# EAGLE library part XCF0*S (library kamiki)
Platform flash In-System Programmable Configuration PROM
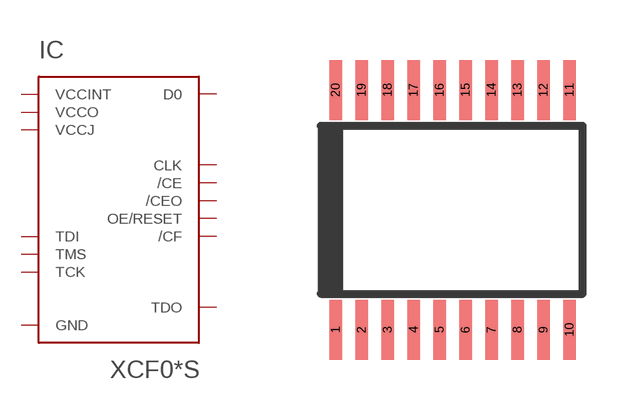
[diagram p39: symbol with the pads of VO20; footprint VO20]

Designator prefix IC

## XCF01S-VO20, XCF02S-VO20, XCF04S-VO20  [VO20]
1  D0  out
3  CLK  in
4  TDI
5  TMS
6  TCK
7  /CF
8  OE/RESET
10  /CE  in
11  GND  pwr
13  /CEO  in
17  TDO  out
18  VCCINT  in
19  VCCO  in
20  VCCJ  in

## Footprint VO20 (pad centres in mm)
Shrink Small Outline Package package type VO20 for XiLINX.
smd 0.32 x 1.5: 1 -2.925,-3; 2 -2.275,-3; 3 -1.625,-3; 4 -0.975,-3; 5 -0.325,-3; 6 0.325,-3; 7 0.975,-3; 8 1.625,-3; 9 2.275,-3; 10 2.925,-3; 11 2.925,3; 12 2.275,3; 13 1.625,3; 14 0.975,3; 15 0.325,3; 16 -0.325,3; 17 -0.975,3; 18 -1.625,3; 19 -2.275,3; 20 -2.925,3